# EAGLE library part ICL7660 (library TinyNES_Library)
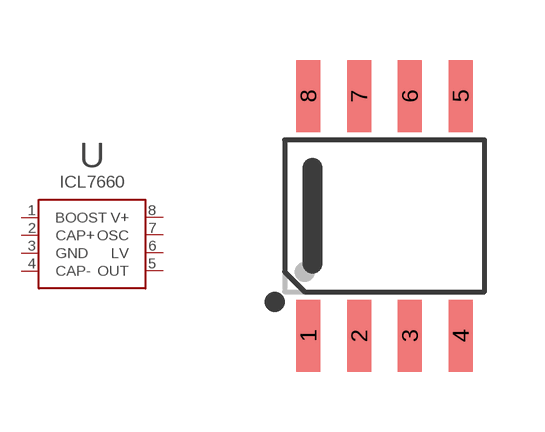
[diagram p19: symbol with the pads of SOIC-8; footprint SOIC-8]

Designator prefix U

## ICL7660  [SOIC-8]
1  BOOST
2  CAP+
3  GND
4  CAP-
5  OUT
6  LV
7  OSC
8  V+

## Footprint SOIC-8 (pad centres in mm)
smd 0.6 x 1.8: 1 -1.905,-3; 2 -0.635,-3; 3 0.635,-3; 4 1.905,-3; 5 1.905,3; 6 0.635,3; 7 -0.635,3; 8 -1.905,3